# EAGLE library part MPL115A2 (library MPL115A2)
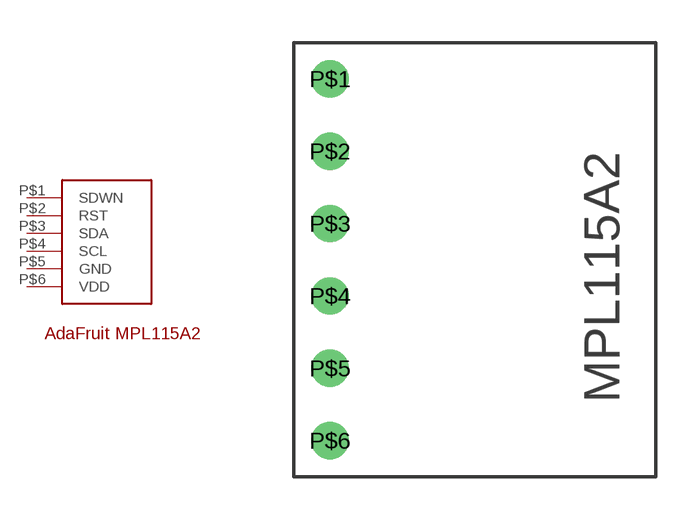
[diagram p0: symbol with the pads of ADAFRUIT; footprint ADAFRUIT]

Designator prefix -

## MPL115A2  [ADAFRUIT]
P$1  SDWN
P$2  RST
P$3  SDA
P$4  SCL
P$5  GND
P$6  VDD

## Footprint ADAFRUIT (pad centres in mm)
drill 0.8: P$1 0,0; P$2 0,-2.54; P$3 0,-5.08; P$4 0,-7.62; P$5 0,-10.16; P$6 0,-12.7